# Altium footprint library RPSLib_Filters.PcbLib: 5 footprints
Each footprint in its own frame and in the unit in brackets; x right, y up, seen from the top. Pads: shape width x height; smd on the part's side, far side on the other; paste and mask are expansions set on the pad; w line width, h text height; cw(c..) or ccw(c..) is an arc to the next point about the centre after c.
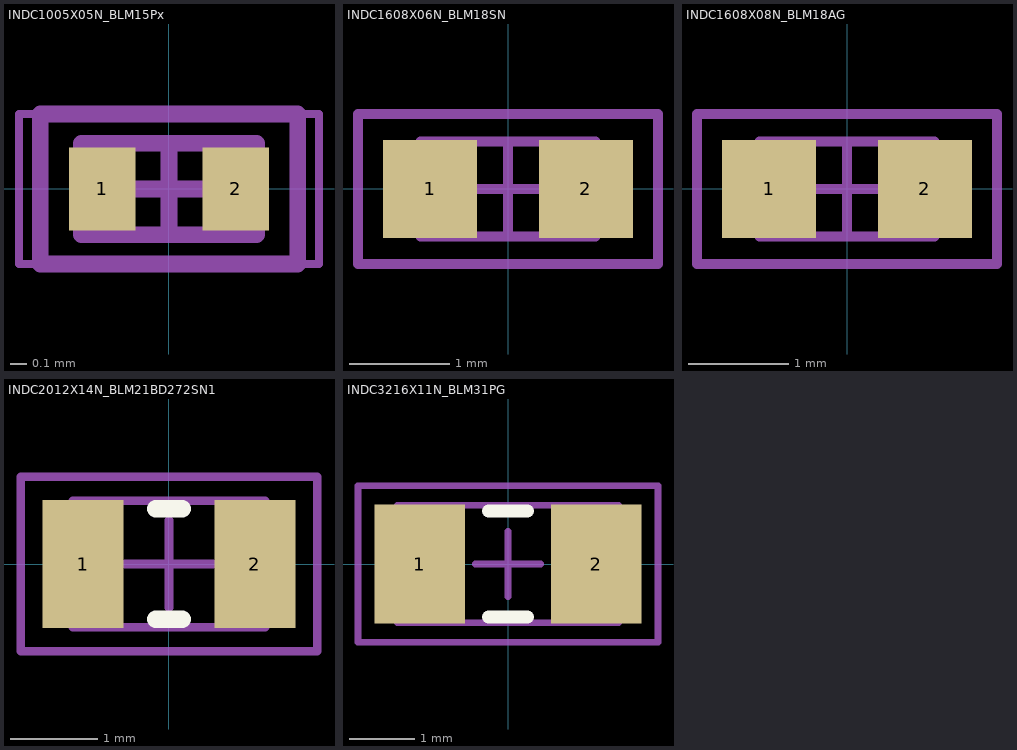
[diagram p0: the footprints below, top view; thin cyan lines are the x and y axes]

## INDC1005X05N_BLM15Px [mm] "Chip Inductor, 2-Leads, Body 1,00x0,50mm, IPC Medium Density"
height 0.5
pads (2):
  rect 0.4x0.5 smd: 1(-0.4,0) 2(0.4,0)
Mechanical 1:
  lines w0.1: -0.773,-0.45 0.773,-0.45 0.773,0.45 -0.773,0.45 -0.773,-0.45
  text ".Designator" at -1.126,-0.113 h0.5
Mechanical 13:
  lines w0.1: -0.525,-0.275 0.525,-0.275 0.525,0.275 -0.525,0.275 -0.525,-0.275
Mechanical 15:
  lines w0.05: -0.9,-0.45 0.9,-0.45 0.9,0.45 -0.9,0.45 -0.9,-0.45
  lines w0.1: -0.275,0 0.275,0 ; 0,-0.275 0,0.275
3D body "INDC1005X05N.step": height 0.5, standoff 0, extent -0.525,-0.275 0.525,0.275

## INDC1608X06N_BLM18SN [mm] "Chip Inductor, 2-Leads, Body 1,60x0,80mm, IPC Medium Density"
height 0.6
pads (2):
  rect 0.94x0.98 smd: 1(-0.78,0) 2(0.78,0)
Mechanical 1:
  lines w0.1: -1.5,-0.75 -1.5,0.75 1.5,0.75 1.5,-0.75 -1.5,-0.75
  text ".Designator" at -1.126,-0.113 h0.5
Mechanical 13:
  lines w0.1: -0.875,-0.475 -0.875,0.475 0.875,0.475 0.875,-0.475 -0.875,-0.475
Mechanical 15:
  lines w0.05: -1.5,-0.75 -1.5,0.75 1.5,0.75 1.5,-0.75 -1.5,-0.75
  lines w0.1: -0.475,0 0.475,0 ; 0,-0.475 0,0.475
3D body "INDC1608X06N_BLM18SN.step": height 0.6, standoff 0, extent -0.875,-0.475 0.875,0.475

## INDC1608X08N_BLM18AG [mm] "Chip Inductor, 2-Leads, Body 1,60x0,80mm, IPC Medium Density"
height 0.8
pads (2):
  rect 0.94x0.98 smd: 1(-0.78,0) 2(0.78,0)
Mechanical 1:
  lines w0.1: -1.5,-0.75 -1.5,0.75 1.5,0.75 1.5,-0.75 -1.5,-0.75
  text ".Designator" at -1.126,-0.113 h0.5
Mechanical 13:
  lines w0.1: -0.875,-0.475 -0.875,0.475 0.875,0.475 0.875,-0.475 -0.875,-0.475
Mechanical 15:
  lines w0.05: -1.5,-0.75 -1.5,0.75 1.5,0.75 1.5,-0.75 -1.5,-0.75
  lines w0.1: -0.475,0 0.475,0 ; 0,-0.475 0,0.475
3D body "INDC1608X08N_BLM18AG.step": height 0.8, standoff 0, extent -0.875,-0.475 0.875,0.475

## INDC2012X14N_BLM21BD272SN1 [mm] "Chip Inductor, 2-Leads, Body 2,00x1,25mm, IPC Medium Density"
height 1.45
pads (2):
  rect 0.93x1.47 smd: 1(-0.985,0) 2(0.985,0)
Top Overlay:
  lines w0.2: -0.15,-0.635 0.15,-0.635 ; -0.15,0.635 0.15,0.635
Mechanical 1:
  lines w0.1: -1.7,-1 -1.7,1 1.7,1 1.7,-1 -1.7,-1
  text ".Designator" at -1.126,-0.113 h0.5
Mechanical 13:
  lines w0.1: -1.1,-0.725 -1.1,0.725 1.1,0.725 1.1,-0.725 -1.1,-0.725
Mechanical 15:
  lines w0.05: -1.7,-1 -1.7,1 1.7,1 1.7,-1 -1.7,-1
  lines w0.1: -0.5,0 0.5,0 ; 0,-0.5 0,0.5
3D body "INDC2012X14N_ 21BD272SN1.step": height 1.45, standoff 0, extent -1.1,-0.725 1.1,0.725

## INDC3216X11N_BLM31PG [mm] "Chip Inductor, 2-Leads, Body 3,20x1,60mm, IPC Medium Density"
height 1.1
pads (2):
  rect 1.39x1.82 smd: 1(-1.355,0) 2(1.355,0)
Top Overlay:
  lines w0.2: -0.3,-0.81 0.3,-0.81 ; -0.3,0.81 0.3,0.81
Mechanical 1:
  lines w0.1: -2.3,-1.2 -2.3,1.2 2.3,1.2 2.3,-1.2 -2.3,-1.2
  text ".Designator" at -1.126,-0.113 h0.5
Mechanical 13:
  lines w0.1: -1.7,-0.9 1.7,-0.9 1.7,0.9 -1.7,0.9 -1.7,-0.9
Mechanical 15:
  lines w0.05: -2.3,-1.2 2.3,-1.2 2.3,1.2 -2.3,1.2 -2.3,-1.2
  lines w0.1: -0.5,0 0.5,0 ; 0,-0.5 0,0.5
3D body "INDC3216X11N.step": height 1.1, standoff 0, extent -1.7,-0.9 1.7,0.9